# Altium integrated library 3M Card CompactFlash.IntLib: 4 symbols
Pins are listed as number, name and electrical type; pins without a type are passive.

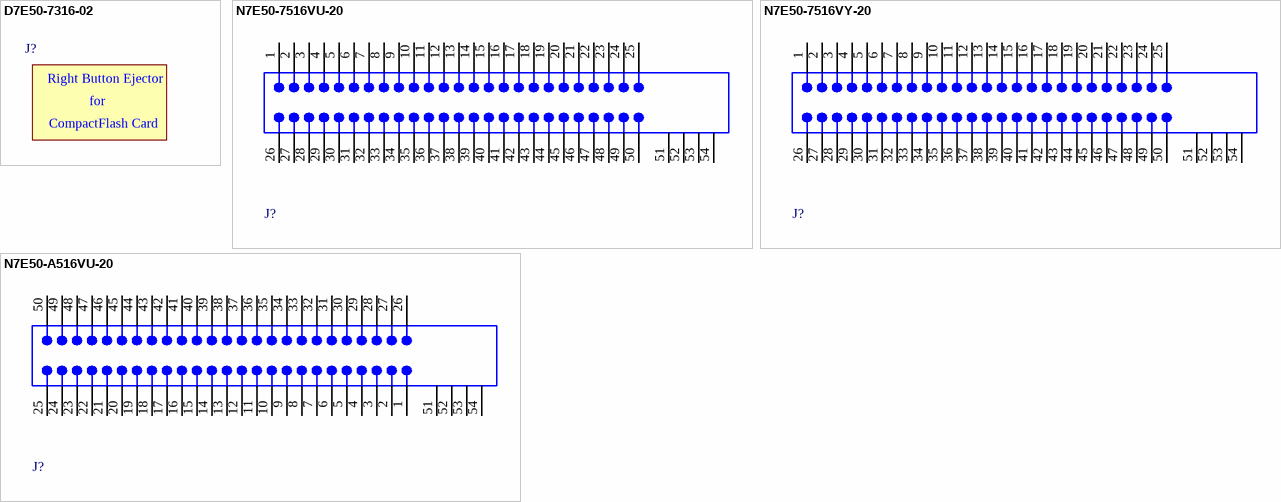
[diagram p0: symbols D7E50-7316-02 to N7E50-A516VU-20]

## D7E50-7316-02
designator J?  (mechanical)
Right Button Ejector for CompactFlash Card Header, Type I; Surface Mount; Published: 6-Jun-2005; DatasheetDocument: Aug-2000; PackageDocument: May-2003; PackageReference: D7E50-7316; Publisher: Altium Limited; ComponentLink1Description: Manufacturer Link; ComponentLink1URL: http://www.3m.com/; ComponentLink2Description: 3M Interconnect; ComponentLink2URL: http://www.3M.com/us/electronics_mfg/interconnects/
footprint D7E50-7316 (Ejector for CompactFlash Card Header, Type I; Right Button)
text: Right Button Ejector; for; CompactFlash Card

## N7E50-7516VU-20
designator J?
CompactFlash Card Header, Type I; Surface Mount; 50W, 0.5A Current Rating; 0.050" x 0.050", 50-Position; Normal Card Polarization; PCB_Layout: Complies with manufacturer's recommendation.; Published: 6-Jun-2005; DatasheetDocument: May-2003; PackageDocument: May-2003; PackageReference: N7E50-7516; Publisher: Altium Limited; PadDimensions: Follow nominal values.; ComponentLink1Description: Manufacturer Link; ComponentLink1URL: http://www.3m.com/; ComponentLink2Description: 3M Interconnect; ComponentLink2URL: http://www.3M.com/us/electronics_mfg/interconnects/
footprint N7E50-7516 (Connector; CompactFlash Card Header, SM; Normal Polarization; 50 Position; Right Angle; Pitch 0.635 mm)
signal-integrity model CF Card Header
pins: 1 "Power", 2 "General", 3 "General", 4 "General", 5 "General", 6 "General", 7 "General", 8 "General", 9 "General", 10 "General", 11 "General", 12 "General", 13 "Power", 14 "General", 15 "General", 16 "General", 17 "General", 18 "General", 19 "General", 20 "General", 21 "General", 22 "General", 23 "General", 24 "General", 25 "Detect", 26 "Detect", 27 "General", 28 "General", 29 "General", 30 "General", 31 "General", 32 "General", 33 "General", 34 "General", 35 "General", 36 "General", 37 "General", 38 "Power", 39 "General", 40 "General", 41 "General", 42 "General", 43 "General", 44 "General", 45 "General", 46 "General", 47 "General", 48 "General", 49 "General", 50 "Power", 51 MH1 "Through for M2", 52 MH2 "Through for M2", 53 MH3, 54 MH4

## N7E50-7516VY-20
designator J?
CompactFlash Card Header, Type I; Surface Mount; 50W, 0.5A Current Rating; 0.050" x 0.050", 50-Position; Normal Card Polarization; PCB_Layout: Complies with manufacturer's recommendation.; Published: 6-Jun-2005; DatasheetDocument: Aug-2000; PackageDocument: May-2003; PackageReference: N7E50-7516; Publisher: Altium Limited; PadDimensions: Follow nominal values.; ComponentLink1Description: Manufacturer Link; ComponentLink1URL: http://www.3m.com/; ComponentLink2Description: 3M Interconnect; ComponentLink2URL: http://www.3M.com/us/electronics_mfg/interconnects/
footprint N7E50-7516 (Connector; CompactFlash Card Header, SM; Normal Polarization; 50 Position; Right Angle; Pitch 0.635 mm)
signal-integrity model CF Card Header
pins: 1 "Power", 2 "General", 3 "General", 4 "General", 5 "General", 6 "General", 7 "General", 8 "General", 9 "General", 10 "General", 11 "General", 12 "General", 13 "Power", 14 "General", 15 "General", 16 "General", 17 "General", 18 "General", 19 "General", 20 "General", 21 "General", 22 "General", 23 "General", 24 "General", 25 "Detect", 26 "Detect", 27 "General", 28 "General", 29 "General", 30 "General", 31 "General", 32 "General", 33 "General", 34 "General", 35 "General", 36 "General", 37 "General", 38 "Power", 39 "General", 40 "General", 41 "General", 42 "General", 43 "General", 44 "General", 45 "General", 46 "General", 47 "General", 48 "General", 49 "General", 50 "Power", 51 MH1 "Through for M2", 52 MH2 "Through for M2", 53 MH3, 54 MH4

## N7E50-A516VU-20
designator J?
CompactFlash Card Header, Type I; Surface Mount; 50W, 0.5A Current Rating; 0.050" x 0.050", 50-Position; Inverse Card Polarization; PCB_Layout: Complies with manufacturer's recommendation.; Published: 6-Jun-2005; DatasheetDocument: May-2003; PackageDocument: May-2003; PackageReference: N7E50-A516; Publisher: Altium Limited; PadDimensions: Follow nominal values.; ComponentLink1Description: Manufacturer Link; ComponentLink1URL: http://www.3m.com/; ComponentLink2Description: 3M Interconnect; ComponentLink2URL: http://www.3M.com/us/electronics_mfg/interconnects/
footprint N7E50-A516 (Connector; CompactFlash Card Header, SM; lnverse Polarization; 50 Position; Right Angle; Pitch 0.635 mm)
signal-integrity model CF Card Header
pins: 1 "Power", 2 "General", 3 "General", 4 "General", 5 "General", 6 "General", 7 "General", 8 "General", 9 "General", 10 "General", 11 "General", 12 "General", 13 "Power", 14 "General", 15 "General", 16 "General", 17 "General", 18 "General", 19 "General", 20 "General", 21 "General", 22 "General", 23 "General", 24 "General", 25 "Detect", 26 "Detect", 27 "General", 28 "General", 29 "General", 30 "General", 31 "General", 32 "General", 33 "General", 34 "General", 35 "General", 36 "General", 37 "General", 38 "Power", 39 "General", 40 "General", 41 "General", 42 "General", 43 "General", 44 "General", 45 "General", 46 "General", 47 "General", 48 "General", 49 "General", 50 "Power", 51 MH1 "Through for M2", 52 MH2 "Through for M2", 53 MH3, 54 MH4